# Altium schematic symbol library NIC_eLTE_HUAWEI_ED01r2.SchLib: 8 symbols
Pins are listed as number, name and electrical type; pins without a type are passive.

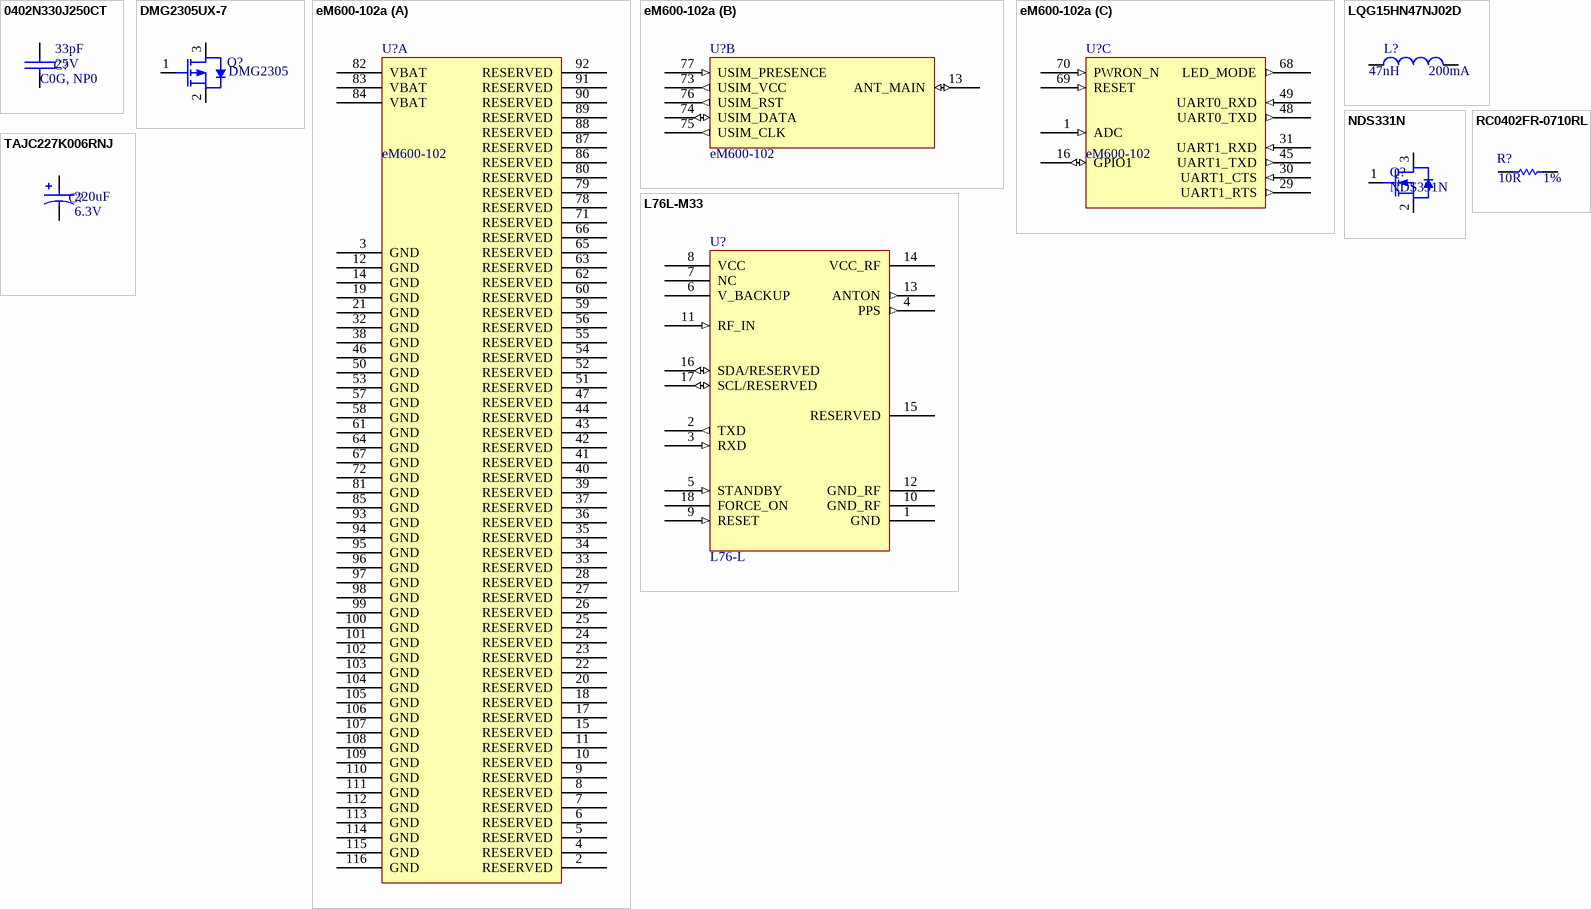
[diagram p0: symbols 0402N330J250CT to TAJC227K006RNJ]

## 0402N330J250CT
designator C?  Temperature Coefficient: C0G, NP0  Voltage: 25V  VALOR: 33pF  (hidden comment: 0402N330J250CT)
CAP SMD CER 33PF 25V C0G/NP0 0402; Manufacturer: Walsin Technologies; ORIGEM: NIC_eLTE_HUAWEI_ED01r02; Manufacturer Part Number: 0402N330J250CT; Case/Package: 0402
footprint CAP 0402 (CAPACITOR 0402)
pins: 1, 2

## DMG2305UX-7
designator Q?  VALOR: DMG2305  (hidden comment: DMG2305UX-7)
TRANS MOSFET P-CH 20V 4.2A SOT23; Manufacturer: Diodes; ORIGEM: NIC_eLTE_HUAWEI_ED01r02; Manufacturer Part Number: DMG2305UX-7; Case/Package: SOT-23
footprint IC SOT23-3
pins: 1 G, 2 S, 3 D

## eM600-102a
designator U?  VALOR: eM600-102  (hidden comment: eM600-102a)
IC MODULE 230MHz eM600-102; Manufacturer: Huawei; ORIGEM: NIC_eLTE_HUAWEI_ED01r02; Manufacturer PartNumber: eM600-102a; Case/Package: BGA
footprint IC eM600-102a
part A pins: 2 RESERVED "Reserved", 3 GND (power) "Ground", 4 RESERVED "Reserved", 5 RESERVED "Reserved", 6 RESERVED "Reserved", 7 RESERVED "Reserved", 8 RESERVED "Reserved", 9 RESERVED "Reserved", 10 RESERVED "Reserved", 11 RESERVED "Reserved", 12 GND (power) "Ground", 14 GND (power) "Ground", 15 RESERVED "Reserved", 17 RESERVED "Reserved", 18 RESERVED "Reserved", 19 GND (power) "Ground", 20 RESERVED "Reserved", 21 GND (power) "Ground", 22 RESERVED "Reserved", 23 RESERVED "Reserved", 24 RESERVED "Reserved", 25 RESERVED "Reserved", 26 RESERVED "Reserved", 27 RESERVED "Reserved", 28 RESERVED "Reserved", 32 GND (power) "Ground", 33 RESERVED "Reserved", 34 RESERVED "Reserved", 35 RESERVED "Reserved", 36 RESERVED "Reserved", 37 RESERVED "Reserved", 38 GND (power) "Ground", 39 RESERVED "Reserved", 40 RESERVED "Reserved", 41 RESERVED "Reserved", 42 RESERVED "Reserved", 43 RESERVED "Reserved", 44 RESERVED "Reserved", 46 GND (power) "Ground", 47 RESERVED "Reserved", 50 GND (power) "Ground", 51 RESERVED "Reserved", 52 RESERVED "Reserved", 53 GND (power) "Ground", 54 RESERVED "Reserved", 55 RESERVED "Reserved", 56 RESERVED "Reserved", 57 GND (power) "Ground", 58 GND (power) "Ground", 59 RESERVED "Reserved", 60 RESERVED "Reserved", 61 GND (power) "Ground", 62 RESERVED "Reserved", 63 RESERVED "Reserved", 64 GND (power) "Ground", 65 RESERVED "Reserved", 66 RESERVED "Reserved", 67 GND (power) "Ground", 71 RESERVED "Reserved", 72 GND (power) "Ground", 78 RESERVED "Reserved", 79 RESERVED "Reserved", 80 RESERVED "Reserved", 81 GND (power) "Ground", 82 VBAT (power) "Power Input", 83 VBAT (power) "Power Input", 84 VBAT (power) "Power Input", 85 GND (power) "Ground", 86 RESERVED "Reserved", 87 RESERVED "Reserved", 88 RESERVED "Reserved", 89 RESERVED "Reserved", 90 RESERVED "Reserved", 91 RESERVED "Reserved", 92 RESERVED "Reserved", 93 GND (power) "Ground", 94 GND (power) "Ground", 95 GND (power) "Ground", 96 GND (power) "Ground", 97 GND (power) "Ground", 98 GND (power) "Ground", 99 GND (power) "Ground", 100 GND (power) "Ground", 101 GND (power) "Ground", 102 GND (power) "Ground", 103 GND (power) "Ground", 104 GND (power) "Ground", 105 GND (power) "Ground", 106 GND (power) "Ground", 107 GND (power) "Ground", 108 GND (power) "Ground", 109 GND (power) "Ground", 110 GND (power) "Ground", 111 GND (power) "Ground", 112 GND (power) "Ground", 113 GND (power) "Ground", 114 GND (power) "Ground", 115 GND (power) "Ground", 116 GND (power) "Ground"
part B pins: 13 ANT_MAIN (io) "Main antenna interface", 73 USIM_VCC (out) "Power supply for (U)SIM card", 74 USIM_DATA (io) "Data signal of (U)SIM card", 75 USIM_CLK (out) "Clock signal of (U)SIM card", 76 USIM_RST (out) "Reset signal of (U)SIM card", 77 USIM_PRESENCE (in) "(U)SIM card insertion detection"
part C pins: 1 ADC (in) "General Modulus Converter", 16 GPIO1 (io) "General Purpose I/O", 29 UART1_RTS (out), 30 UART1_CTS (in), 31 UART1_RXD (in), 45 UART1_TXD (out), 48 UART0_TXD (out), 49 UART0_RXD (in), 68 LED_MODE (out) "Network Status Indicator", 69 RESET (in) "Module Restart", 70 PWRON_N (in) "System Boot or Shut down"

## L76L-M33
designator U?  VALOR: L76-L  (hidden comment: L76L-M33)
IC GPS/GNSS RECEIVER 18LCC; Manufacturer: Quectel; ORIGEM: NIC_eLTE_HUAWEI_ED01r02; Manufacturer Part Number: L76L-M33; Case/Package: *
footprint IC MAX-M8C-0-10
pins: 1 GND (power), 2 TXD (out), 3 RXD (in), 4 PPS (out), 5 STANDBY (in), 6 V_BACKUP (power), 7 NC (power), 8 VCC (power), 9 RESET (in), 10 GND_RF (power), 11 RF_IN (in), 12 GND_RF (power), 13 ANTON (out), 14 VCC_RF (power), 15 RESERVED, 16 SDA/RESERVED (io), 17 SCL/RESERVED (io), 18 FORCE_ON

## LQG15HN47NJ02D
designator L?  Current: 200mA  VALOR: 47nH  (hidden comment: LQG15HN47NJ02D)
IND SMD 47NH 250MA 1.15OHM 0402; Manufacturer: Murata; ORIGEM: NIC_eLTE_HUAWEI_ED01r02; Manufacturer Part Number: LQG15HN47NJ02D; Case/Package: 0402; Inductance: 47nH
footprint IND 0402 (INDUTOR 0402)
pins: 1, 2

## NDS331N
designator Q?
TRANS MOSFET N-CH 20V 1.3A 3-Pin SuperSOT T/R; Manufacturer: ON Semiconductor / Fairchild; ORIGEM: NIC_eLTE_HUAWEI_ED01r02; Manufacturer Part Number: NDS331N; Case/Package: TO-236-3; VALOR: NDS331N
footprint IC SOT23-3
pins: 1 G, 2 S, 3 D

## RC0402FR-0710RL
designator R?  Tolerance: 1%  VALOR: 10R  (hidden comment: RC0402FR-0710RL)
RES SMD 10 OHM 1% 1/16W 0402; Manufacturer: Yageo; ORIGEM: NIC_eLTE_HUAWEI_ED01r02; Manufacturer Part Number: RC0402FR-0710RL; Case/Package: 0402; Resistance: 10R; Power: 1/16W
footprint RES 0402
pins: 1, 2

## TAJC227K006RNJ
designator C?  Voltage: 6.3V  VALOR: 220uF  (hidden comment: TAJC227K006RNJ)
CAP SMD TANT 220UF 6.3V 10% 2312; Manufacturer: Kyocera AVX; ORIGEM: NIC_eLTE_HUAWEI_ED01r02; Manufacturer Part Number: TAJC227K006RNJ; Case/Package: 2312; Capacitance: 220uF
footprint CAP 2312
pins: 1, 2